# Altium schematic symbol library LTM4643EY#PBF.SchLib: 1 symbol
Pins are listed as number, name and electrical type; pins without a type are passive.

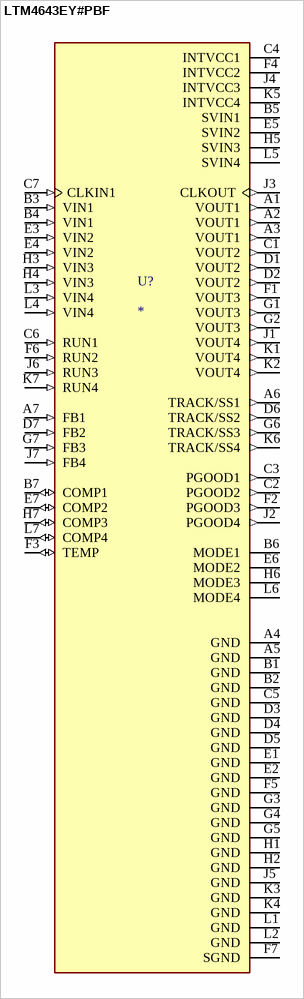
[diagram p0: symbol LTM4643EY#PBF]

## LTM4643EY#PBF
designator U?
LTM4643 - Ultrathin Quad ﾎｼModule Regulator with Configurable 3A Output Array; MP: LTM4643EY#PBF; MF: {'manufacturer': u'Linear Technology/Analog'}; Availability: Unavailable; Price: None; Value: *; Package: None
footprint BGA77C127P7X11_1500X900X262
pins: A1 VOUT1 (out), A2 VOUT1 (out), A3 VOUT1 (out), A4 GND (power), A5 GND (power), A6 TRACK/SS1 (out), A7 FB1 (in), B1 GND (power), B2 GND (power), B3 VIN1 (in), B4 VIN1 (in), B5 SVIN1 (power), B6 MODE1, B7 COMP1 (io), C1 VOUT2 (out), C2 PGOOD2 (out), C3 PGOOD1 (out), C4 INTVCC1 (power), C5 GND (power), C6 RUN1 (in), C7 CLKIN1 (in), D1 VOUT2 (out), D2 VOUT2 (out), D3 GND (power), D4 GND (power), D5 GND (power), D6 TRACK/SS2 (out), D7 FB2 (in), E1 GND (power), E2 GND (power), E3 VIN2 (in), E4 VIN2 (in), E5 SVIN2 (power), E6 MODE2, E7 COMP2 (io), F1 VOUT3 (out), F2 PGOOD3 (out), F3 TEMP (io), F4 INTVCC2 (power), F5 GND (power), F6 RUN2 (in), F7 SGND (power), G1 VOUT3 (out), G2 VOUT3 (out), G3 GND (power), G4 GND (power), G5 GND (power), G6 TRACK/SS3 (out), G7 FB3 (in), H1 GND (power), H2 GND (power), H3 VIN3 (in), H4 VIN3 (in), H5 SVIN3 (power), H6 MODE3, H7 COMP3 (io), J1 VOUT4 (out), J2 PGOOD4 (out), J3 CLKOUT (out), J4 INTVCC3 (power), J5 GND (power), J6 RUN3 (in), J7 FB4 (in), K1 VOUT4 (out), K2 VOUT4 (out), K3 GND (power), K4 GND (power), K5 INTVCC4 (power), K6 TRACK/SS4 (out), K7 RUN4 (in), L1 GND (power), L2 GND (power), L3 VIN4 (in), L4 VIN4 (in), L5 SVIN4 (power), L6 MODE4, L7 COMP4 (io)